# Altium footprint library ADF4360-8.PcbLib: 1 footprints
Each footprint in its own frame and in the unit in brackets; x right, y up, seen from the top. Pads: shape width x height; smd on the part's side, far side on the other; paste and mask are expansions set on the pad; w line width, h text height; cw(c..) or ccw(c..) is an arc to the next point about the centre after c.
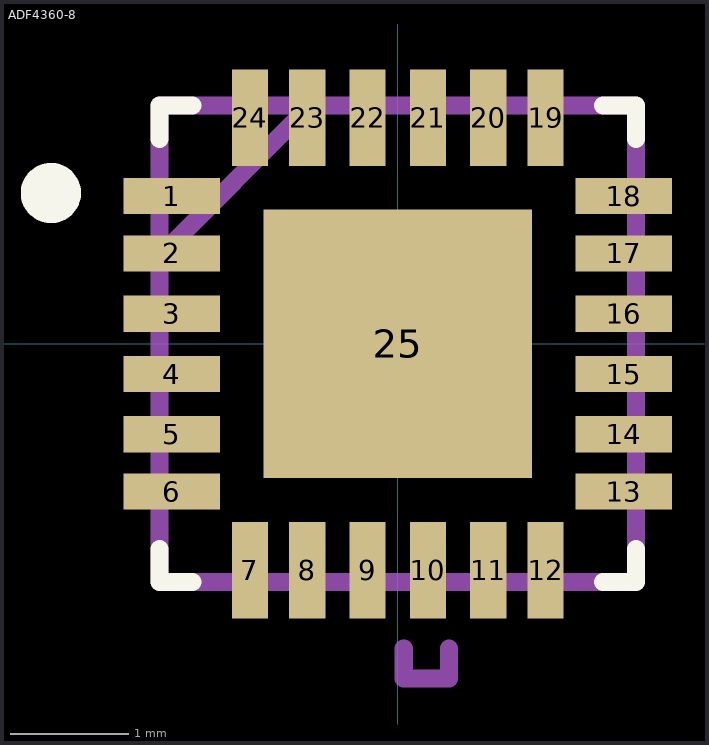
[diagram p0: the footprint, top view; thin cyan lines are the x and y axes]

## ADF4360-8 [mil] "Integrated PLL Synthesizer with VCO"
pads (25):
  rect 32x12 smd: 1(-75,49) 2(-75,30) 3(-75,10) 4(-75,-10) 5(-75,-30) 6(-75,-49) 13(75,-49) 14(75,-30) 15(75,-10) 16(75,10) 17(75,30) 18(75,49)
  rect 12x32 smd: 7(-49,-75) 8(-30,-75) 9(-10,-75) 10(10,-75) 11(30,-75) 12(49,-75) 19(49,75) 20(30,75) 21(10,75) 22(-10,75) 23(-30,75) 24(-49,75)
  rect 89x89 smd: 25(0,0)
Top Overlay:
  circle w10: c-115,50 r5
  lines w6: -79,-68 -79,-79 -68,-79 ; -79,68 -79,79 -68,79 ; 68,-79 79,-79 79,-68 ; 68,79 79,79 79,68
Mechanical 13:
  lines w6: -79,-55 -79,-43 ; -79,-35 -79,-24 ; -79,-16 -79,-4 ; -79,4 -79,16 ; -79,24 -79,35 ; -79,29 -29,79 ; -79,43 -79,55 ; -55,-79 -43,-79 ; -55,79 -43,79 ; -35,-79 -24,-79 ; -35,79 -24,79 ; -16,-79 -4,-79 ; -16,79 -4,79 ; 2,-101 2,-111 17,-111 17,-101 ; 4,-79 16,-79 ; 4,79 16,79 ; 24,-79 35,-79 ; 24,79 35,79 ; 43,-79 55,-79 ; 43,79 55,79 ; 79,-55 79,-43 ; 79,-35 79,-24 ; 79,-16 79,-4 ; 79,4 79,16 ; 79,24 79,35 ; 79,43 79,55 ; -79,-79 -79,79 79,79 79,-79 -79,-79
3D body "User Library-ADF4360-9.STEP": height 32.68, standoff -0.79, extent -78.73,-78.73 78.75,78.75